# EAGLE library part ST1S31D-R (library ST1S31D-R)
STMicroelectronics, ST1S31D-R Step-Down Switching Regulator 3A Adjustable 8-Pin, SOIC Source: Datasheet <http://www.st.com/content/ccc/resource/technical/document/datasheet/group3/ec/e5/76/72/e8/25/4d/47/DM00051589/files/DM00051589.pdf/jcr:content/translations/en.DM00051589.pdf>
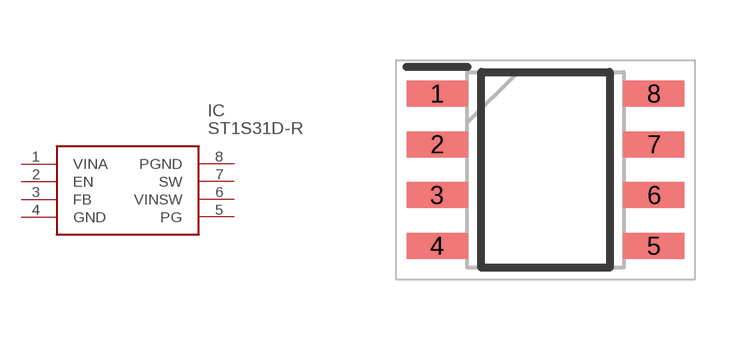
[diagram p0: symbol with the pads of SOIC127P600X175-8N; footprint SOIC127P600X175-8N]

Designator prefix IC

## ST1S31D-R (Arrow_Part_Number: ST1S31D-R; Arrow_Price-Stock: https://www.arrow.com/en/products/st1s31d-r/stmicroelectronics; Description: STMicroelectronics, ST1S31D-R Step-Down Switching Regulator 3A Adjustable 8-Pin, SOIC; Height: 1.75mm; Manufacturer_Name: STMicroelectronics; Manufacturer_Part_Number: ST1S31D-R; Mouser_Part_Number: 511-ST1S31D-R; Mouser_Price-Stock: https://www.mouser.com/Search/Refine.aspx?Keyword=511-ST1S31D-R)  [SOIC127P600X175-8N]
1  VINA
2  EN
3  FB
4  GND
5  PG
6  VINSW
7  SW
8  PGND

## Footprint SOIC127P600X175-8N (pad centres in mm)
SO-8
smd 1.525 x 0.65: 1 -2.712,1.905; 2 -2.712,0.635; 3 -2.712,-0.635; 4 -2.712,-1.905; 5 2.712,-1.905; 6 2.712,-0.635; 7 2.712,0.635; 8 2.712,1.905